# Altium footprint library PCB - CONNECTOR - SAMTEC IPL1-108-01-L-D-K.PCBLIB: 1 footprints
Each footprint in its own frame and in the unit in brackets; x right, y up, seen from the top. Pads: shape width x height; smd on the part's side, far side on the other; paste and mask are expansions set on the pad; w line width, h text height; cw(c..) or ccw(c..) is an arc to the next point about the centre after c.
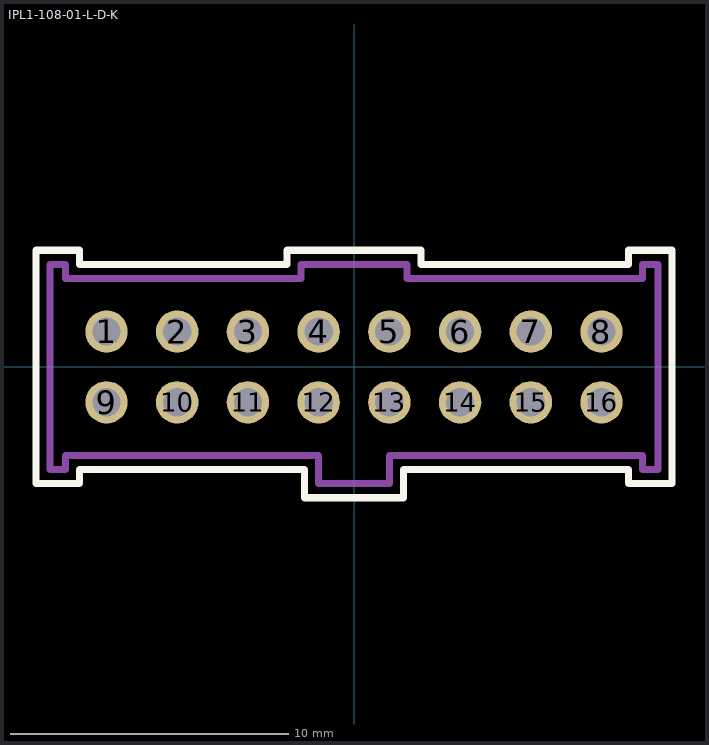
[diagram p0: the footprint, top view; thin cyan lines are the x and y axes]

## IPL1-108-01-L-D-K [mil]
pads (16):
  round 60 hole 40 mask+3: 1(-350,50) 2(-250,50) 3(-150,50) 4(-50,50) 5(50,50) 6(150,50) 7(250,50) 8(350,50) 9(-350,-50) 10(-250,-50) 11(-150,-50) 12(-50,-50) 13(50,-50) 14(150,-50) 15(250,-50) 16(350,-50)
Top Overlay:
  lines w10: -450,-165 -450,165 -388,165 -388,145 -95,145 -95,165 95,165 95,145 388,145 388,165 450,165 450,-165 388,-165 388,-145 70,-145 70,-185 -70,-185 -70,-145 -388,-145 -388,-165 -450,-165
M5 Assembly Top:
  lines w10: -430,-145 -430,145 -408,145 -408,125 -75,125 -75,145 75,145 75,125 408,125 408,145 430,145 430,-145 408,-145 408,-125 50,-125 50,-165 -50,-165 -50,-125 -408,-125 -408,-145 -430,-145
  text ".Designator" at -70.87,-27.56 h60
3D body "IPL1-108-01-L-D-K.stp": height 320, standoff -120, extent -430,-165 430,145